# EAGLE library part MOLEX-SD (library misc)
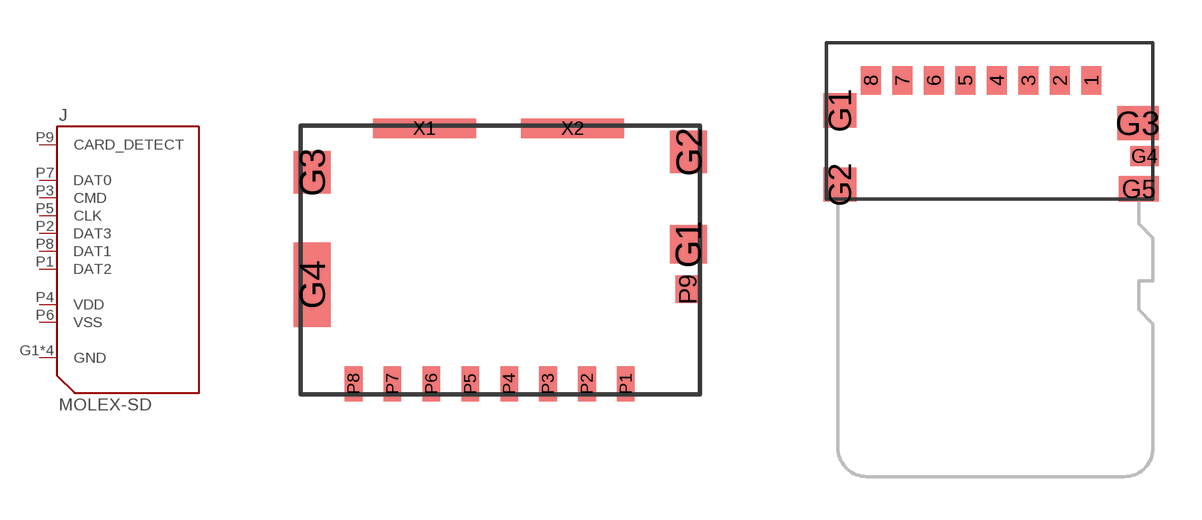
[diagram p5: symbol with the pads of MOLEX-105162; footprints MOLEX-105162, MOLEX-47571]

Designator prefix J

## MOLEX-SD-105162-001  [MOLEX-105162]
G1  GND  sup
G2  GND  sup
G3  GND  sup
G4  GND  sup
P1  DAT2
P2  DAT3  in
P3  CMD  in
P4  VDD  sup
P5  CLK  in
P6  VSS  sup
P7  DAT0  out
P8  DAT1
P9  CARD_DETECT  pas

## MOLEX-SD-47571-001  [MOLEX-47571]
1  DAT2
2  DAT3  in
3  CMD  in
4  VDD  sup
5  CLK  in
6  VSS  sup
7  DAT0  out
8  DAT1
G1  GND  sup
G2  GND  sup
G3  GND  sup
G5  CARD_DETECT  pas

## Footprint MOLEX-105162 (pad centres in mm)
smd 1.05 x 1.08: G1 5.325,4.45
smd 1.05 x 1.2: G2 5.325,7.06; G3 -5.325,6.49
smd 1.05 x 2.39: G4 -5.325,3.305
smd 0.5 x 1: P1 3.55,0.5; P2 2.45,0.5; P3 1.35,0.5; P4 0.25,0.5; P5 -0.85,0.5; P6 -1.95,0.5; P7 -3.05,0.5; P8 -4.15,0.5
smd 0.72 x 0.78: P9 5.31,3.18
smd 2.91 x 0.55: X1 -2.145,7.735; X2 2.045,7.735

## Footprint MOLEX-47571 (pad centres in mm)
smd 0.7 x 1: 1 3.85,0; 2 2.75,0; 3 1.65,0; 4 0.55,0; 5 -0.55,0; 6 -1.65,0; 7 -2.75,0; 8 -3.85,0
smd 1.15 x 1.2: G1 -4.925,-1.05; G2 -4.925,-3.64
smd 1.45 x 1.2: G3 5.475,-1.49
smd 1 x 0.7: G4 5.7,-2.64
smd 1.4 x 0.9: G5 5.5,-3.79